# Altium schematic symbol library USB1125-GF-B.SchLib: 1 symbol
Pins are listed as number, name and electrical type; pins without a type are passive.

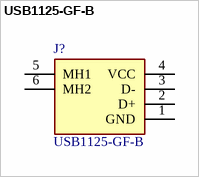
[diagram p0: symbol USB1125-GF-B]

## USB1125-GF-B
designator J?
USB-A (USB TYPE-A) USB 2.0 Receptacle Connector 4 Position Through Hole, Right Angle; Manufacturer_Name: GCT (GLOBAL CONNECTOR TECHNOLOGY); Geometry.Height: 6.63mm; Mouser Part Number: 640-USB1125-GF-B; Mouser Price/Stock: https://www.mouser.co.uk/ProductDetail/GCT/USB1125-GF-B?qs=KUoIvG%2F9IlbMrLtAEIp0gA%3D%3D; Manufacturer_Part_Number: USB1125-GF-B; Datasheet Link: https://gct.co/Files/Drawings/USB1125.pdf?v=4becdda1-cc62-4082-a121-52fbd8b9794d
footprint USB1125GFB
pins: 1 GND, 2 D+, 3 D-, 4 VCC, 5 MH1, 6 MH2